# Altium schematic symbol library MotorDriver.SCHLIB: 24 symbols
Pins are listed as number, name and electrical type; pins without a type are passive.

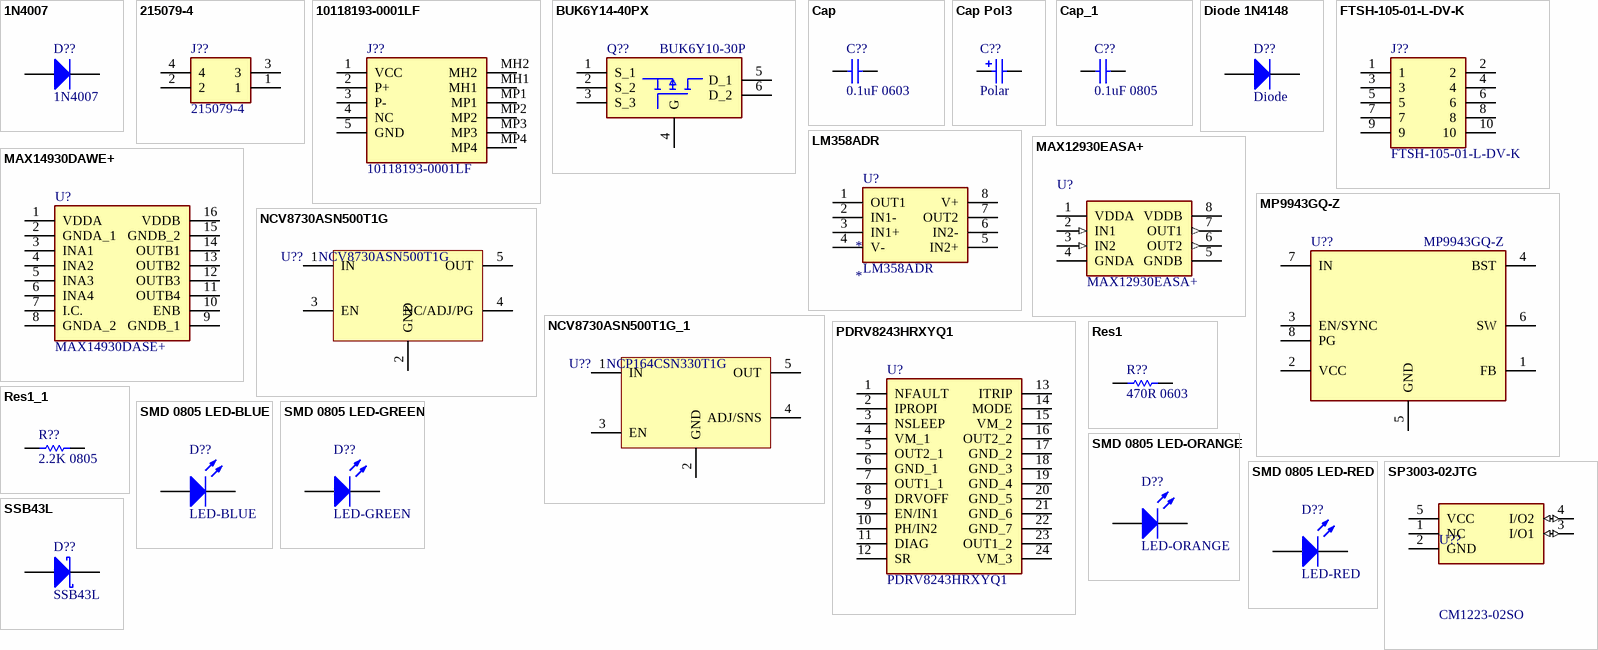
[diagram p0: symbols 1N4007 to SSB43L]

## 1N4007
designator D??
Diode, Standard, 1A, 1000v; Supplier 1: Farnell; Supplier Part Number 1: 9549129
footprint DIODE0.4_AUT (Diode, Axial; Body 5.2 x 2.7 mm (LxDia. max), Pin Distance, 400mil)
pins: A, K

## 215079-4
designator J??
Connector; Manufacturer_Name: TE Connectivity; Datasheet Link: https://www.te.com/commerce/DocumentDelivery/DDEController?Action=srchrtrv&DocNm=215079&DocType=Customer+Drawing&DocLang=English; Height: 4.2mm; Manufacturer_Part_Number: 215079-4; Mouser Part Number: 571-215079-4; Mouser Price/Stock: https://www.mouser.co.uk/ProductDetail/TE-Connectivity/215079-4?qs=O3N86PA0UL%252BdoZEVcFx8sQ%3D%3D; Arrow Part Number: 215079-4; Arrow Price/Stock: https://www.arrow.com/en/products/215079-4/te-connectivity
footprint 2150794
pins: 1, 2, 3, 4

## 10118193-0001LF
designator J??
Connector; Manufacturer_Name: AMPHENOL COMMUNICATION SOLUTIONS; Datasheet Link: https://cdn.amphenol-icc.com/media/wysiwyg/files/drawing/10118193.pdf; Height: 3.3mm; Manufacturer_Part_Number: 10118193-0001LF
footprint 101181930001LF
pins: 1 VCC, 2 P+, 3 P-, 4 NC, 5 GND, MH1, MH2, MP1, MP2, MP3, MP4

## BUK6Y14-40PX
designator Q??, comment BUK6Y10-30P
MOSFET (P-Channel); Manufacturer_Name: Nexperia; Manufacturer_Part_Number: BUK6Y14-40PX; Datasheet Link: https://assets.nexperia.com/documents/data-sheet/BUK6Y14-40P.pdf; Height: 1.2mm; Mouser Part Number: 771-BUK6Y14-40PX; Mouser Price/Stock: https://www.mouser.co.uk/ProductDetail/Nexperia/BUK6Y14-40PX?qs=vmHwEFxEFR91d%252BcXKqAEkw%3D%3D
footprint BUK6Y1440PX
pins: 1 S_1, 2 S_2, 3 S_3, 4 G, 5 D_1, 6 D_2

## Cap
designator C??  value 0.1uF 0603
Capacitor; Published: 8-Jun-2000; LatestRevisionDate: 17-Jul-2002; LatestRevisionNote: Re-released for DXP Platform.; PackageReference: RAD-0.3; Publisher: Altium Limited; PackageDescription: Radial Cap, Thru-Hole; 2 Leads; 0.3 in Pin Spacing
footprint Cap_0603
simulation model CAP (Capacitor)
signal-integrity model Cap
pins: 1, 2

## Cap Pol3
designator C??, comment Polar
Polarized Capacitor (Surface Mount); Published: 8-Jun-2000; LatestRevisionDate: 29-May-2009; LatestRevisionNote: IPC-7351 Footprint Added.; PackageReference: C0805; Publisher: Altium Limited; PackageDescription: Chip Capacitor
footprint C0805 (Chip Capacitor, Body 2.0x1.3mm, IPC High Density)
footprint 1812 (Chip Capacitor, Body 4.5x3.2mm, IPC High Density)
footprint 1825 (Chip Capacitor, Body 4.5x6.4mm, IPC High Density)
footprint C2225 (Chip Capacitor, Body 5.7x6.4mm, IPC High Density)
footprint 2220 (Chip Capacitor, Body 5.7x5.0mm, IPC High Density)
simulation model CAP (Capacitor)
signal-integrity model Cap Pol
pins: 1, 2
1 alternate drawing of the same symbol

## Cap_1
designator C??  value 0.1uF 0805
Capacitor; Published: 8-Jun-2000; LatestRevisionDate: 17-Jul-2002; LatestRevisionNote: Re-released for DXP Platform.; PackageReference: RAD-0.3; Publisher: Altium Limited; PackageDescription: Radial Cap, Thru-Hole; 2 Leads; 0.3 in Pin Spacing
footprint Cap_0805 (Body 2.0 x 1.3mm (LxW typ))
simulation model CAP (Capacitor)
signal-integrity model Cap
pins: 1, 2

## Diode 1N4148
designator D??, comment Diode
High Conductance Fast Diode; Published: 8-Jun-2000; LatestRevisionDate: 17-Jul-2002; LatestRevisionNote: Re-released for DXP Platform.; DatasheetVersion: 1997; PackageReference: DO-35; Publisher: Altium Limited; PackageDescription: Diode, Axial; Body 3.8 x 1.9 mm (LxDia. max), Lead Dia. 0.53 mm (max); Code_JEDEC: DO-204-AH; ComponentLink1Description: Manufacturer Link; ComponentLink1URL: http://www.fairchildsemi.com/; ComponentLink2Description: Datasheet; ComponentLink2URL: http://www.fairchildsemi.com/ds/1N%2F1N4148.pdf
footprint DO-35 (Diode, Axial; Body 3.8 x 1.9 mm (LxDia. max), Lead Dia. 0.53 mm (max))
simulation model 1N4148 (DIODE)
signal-integrity model 1N4148
pins: 1 A, 2 K

## FTSH-105-01-L-DV-K
designator J??
Connector; Manufacturer_Name: SAMTEC; Datasheet Link: https://www.arrow.com/en/products/ftsh-105-01-l-dv-k/samtec; Height: 6.1mm; Manufacturer_Part_Number: FTSH-105-01-L-DV-K; Mouser Part Number: 200-FTSH10501LDVK; Mouser Price/Stock: https://www.mouser.co.uk/ProductDetail/Samtec/FTSH-105-01-L-DV-K?qs=%252B5JSS813miOqo3Vy%252BvhCFg%3D%3D; Arrow Part Number: FTSH-105-01-L-DV-K; Arrow Price/Stock: https://www.arrow.com/en/products/ftsh-105-01-l-dv-k/samtec?region=europe
footprint FTSH10501LDVK
pins: 1, 2, 3, 4, 5, 6, 7, 8, 9, 10

## LM358ADR
designator *
footprint Model Name (Footprint not found)
footprint LM358ADR (Footprint not found)
pins: 1 OUT1, 2 IN1-, 3 IN1+, 4 V-, 5 IN2+, 6 IN2-, 7 OUT2, 8 V+
text: U?

## MAX12930EASA+
designator U?
Integrated Circuit; Manufacturer_Name: Maxim Integrated; Datasheet Link: https://ms.componentsearchengine.com/Datasheets/1/MAX12930EASA+.pdf; Height: 1.75mm; Manufacturer_Part_Number: MAX12930EASA+; Mouser Part Number: 700-MAX12930EASA+; Mouser Price/Stock: https://www.mouser.com/Search/Refine.aspx?Keyword=700-MAX12930EASA%2B
footprint SOIC127P600X175-8N
pins: 1 VDDA (power), 2 IN1 (in), 3 IN2 (in), 4 GNDA (power), 5 GNDB (power), 6 OUT2 (out), 7 OUT1 (out), 8 VDDB (power)

## MAX14930DAWE+
designator U?, comment MAX14930DASE+
Integrated Circuit; Manufacturer_Name: Maxim Integrated; Manufacturer_Part_Number: MAX14930DAWE+; Datasheet Link: https://datasheets.maximintegrated.com/en/ds/MAX14130-MAX14932.pdf; Height: 2.65mm; Mouser Part Number: 700-MAX14930DAWE+; Mouser Price/Stock: https://www.mouser.co.uk/ProductDetail/Maxim-Integrated/MAX14930DAWE%2b?qs=AAveGqk956FMXGKxABEd7w%3D%3D
footprint SOIC127P1032X265-16N
pins: 1 VDDA, 2 GNDA_1, 3 INA1, 4 INA2, 5 INA3, 6 INA4, 7 I.C., 8 GNDA_2, 9 GNDB_1, 10 ENB, 11 OUTB4, 12 OUTB3, 13 OUTB2, 14 OUTB1, 15 GNDB_2, 16 VDDB

## MP9943GQ-Z
designator U??
Integrated Circuit; Manufacturer_Name: Monolithic Power Systems (MPS); Datasheet Link: https://www.monolithicpower.com/jp/documentview/productdocument/index/version/2/document_type/Datasheet/lang/en/sku/MP9943/document_id/865/; Height: 1mm; Manufacturer_Part_Number: MP9943GQ-Z; Mouser Part Number: 946-MP9943GQ-Z; Mouser Price/Stock: https://www.mouser.co.uk/ProductDetail/Monolithic-Power-Systems-MPS/MP9943GQ-Z?qs=493kPxzlxfKVcyEndxwGRg%3D%3D
footprint MP9943GQZ
pins: 1 FB, 2 VCC, 3 EN/SYNC, 4 BST, 5 GND, 6 SW, 7 IN, 8 PG

## NCV8730ASN500T1G
designator U??
footprint SOP95P275X110-6N
pins: 1 IN, 2 GND, 3 EN, 4 NC/ADJ/PG, 5 OUT

## NCV8730ASN500T1G_1
designator U??, comment NCP164CSN330T1G
footprint SOP95P250X265-6N (SOP, 6-Leads, Body 3.00x1.50mm, Pitch 0.95mm, IPC Medium Density)
pins: 1 IN, 2 GND, 3 EN, 4 ADJ/SNS, 5 OUT

## PDRV8243HRXYQ1
designator U?
Integrated Circuit; Manufacturer_Name: Texas Instruments; Datasheet Link: https://www.ti.com/lit/ds/symlink/drv8243-q1.pdf?ts=1644833151548&ref_url=https%253A%252F%252Fwww.ti.com%252Fstore%252Fti%252Fen%252Fp%252Fproduct%252F%253Fp%253DPDRV8243HRXYQ1; Height: 1mm; Manufacturer_Part_Number: PDRV8243HRXYQ1
footprint PDRV8243HRXYQ1
pins: 1 NFAULT, 2 IPROPI, 3 NSLEEP, 4 VM_1, 5 OUT2_1, 6 GND_1, 7 OUT1_1, 8 DRVOFF, 9 EN/IN1, 10 PH/IN2, 11 DIAG, 12 SR, 13 ITRIP, 14 MODE, 15 VM_2, 16 OUT2_2, 17 GND_2, 18 GND_3, 19 GND_4, 20 GND_5, 21 GND_6, 22 GND_7, 23 OUT1_2, 24 VM_3

## Res1
designator R??, comment 470R 0603
Resistor; Published: 8-Jun-2000; LatestRevisionDate: 17-Jul-2002; LatestRevisionNote: Re-released for DXP Platform.; PackageReference: AXIAL-0.3; Publisher: Altium Limited; PackageDescription: Axial Device, Thru-Hole; 2 Leads; 0.3 in Pin Spacing
footprint CAPC1005X55N
footprint RES_0603
pins: 1, 2

## Res1_1
designator R??, comment 2.2K 0805
Resistor; Published: 8-Jun-2000; LatestRevisionDate: 17-Jul-2002; LatestRevisionNote: Re-released for DXP Platform.; PackageReference: AXIAL-0.3; Publisher: Altium Limited; PackageDescription: Axial Device, Thru-Hole; 2 Leads; 0.3 in Pin Spacing
footprint RES_0805
footprint CAPC1005X55N
pins: 1, 2

## SMD 0805 LED-BLUE
designator D??, comment LED-BLUE
BLUE LED, Case 0805; Supplier 1: Farnell; Supplier Part Number 1: 1850746
footprint LED0805B (SMD; Blue LED; Body 2.1 x 1.35 mm)
pins: A, K

## SMD 0805 LED-GREEN
designator D??, comment LED-GREEN
GREEN  LED,Case 0805; Supplier 1: Farnell; Supplier Part Number 1: 1716766
footprint LED0805G (SMD; Green LED; Body 2.1 x 1.35 mm)
pins: A, K

## SMD 0805 LED-ORANGE
designator D??, comment LED-ORANGE
ORANGE LED, Case 0805; Supplier 1: Farnell; Supplier Part Number 1: 8529922
footprint LED0805O (SMD; Orange LED; Body 2.1 x 1.35 mm)
pins: A, K

## SMD 0805 LED-RED
designator D??, comment LED-RED
RED LED, Case 0805; Supplier 1: Farnell; Supplier Part Number 1: 1581239
footprint LED0805R (SMD; Red LED; Body 2.1 x 1.35 mm)
pins: A, K

## SP3003-02JTG
designator U??, comment CM1223-02SO
Integrated Circuit; Manufacturer_Name: LITTELFUSE; Manufacturer_Part_Number: SP3003-02JTG; Datasheet Link: https://datasheet.datasheetarchive.com/originals/distributors/Datasheets-DGA26/1840396.pdf; Height: 1.1mm; Mouser Part Number: 576-SP3003-02JTG; Mouser Price/Stock: https://www.mouser.co.uk/ProductDetail/Littelfuse/SP3003-02JTG?qs=je4hkJKt%2FJ1VE%2FhJSW73jg%3D%3D; Arrow Part Number: SP3003-02JTG; Arrow Price/Stock: https://www.arrow.com/en/products/sp3003-02jtg/littelfuse?region=nac
footprint SOT65P220X110-5N
pins: 1 NC, 2 GND (power), 3 I/O1 (io), 4 I/O2 (io), 5 VCC (power)

## SSB43L
designator D??
Schottky Diode, 4A, 30v; Supplier 1: Farnell; Supplier Part Number 1: 1336556
footprint DO-214AA(SMB) (Body 3.9x4.57mm)
pins: A, K